# Altium integrated library KLS8-M3.IntLib: 1 symbol
Pins are listed as number, name and electrical type; pins without a type are passive.

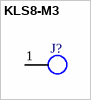
[diagram p0: symbol KLS8-M3]

## KLS8-M3
designator J?  (value not drawn)
footprint KLS8-M3
pins: 1